# EAGLE library part QUAD (library _mtvl.DIY-PCB)
OP AMP
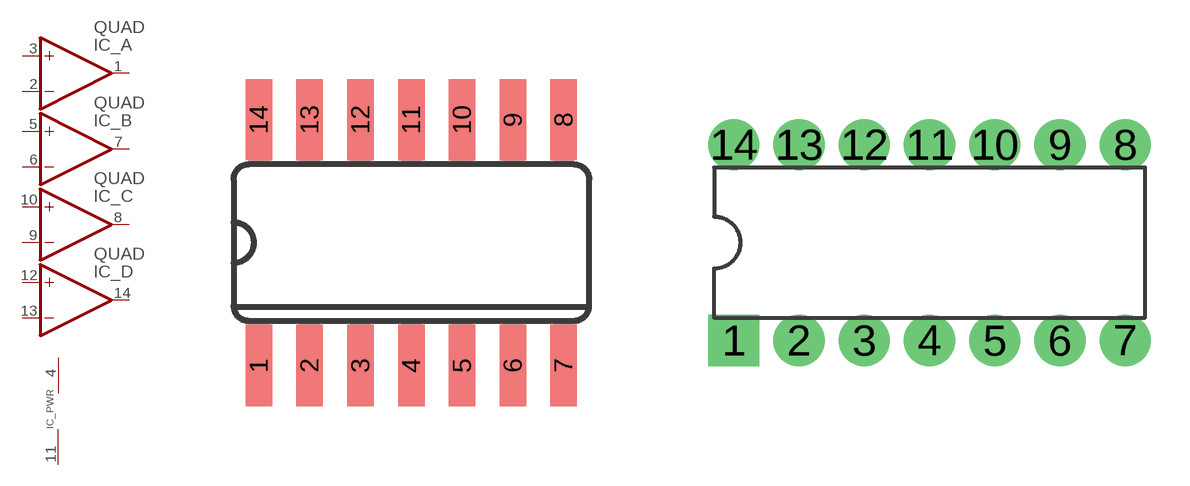
[diagram p1: symbol with the pads of SO14; footprints SO14, DIL14]

Designator prefix IC; gates _A=OPAMP _B=OPAMP _C=OPAMP _D=OPAMP _PWR=PWR+-

## QUADSMD  [SO14]
1  _A:OUT  out
2  _A:-IN  in
3  _A:+IN  in
4  _PWR:V+  pwr
5  _B:+IN  in
6  _B:-IN  in
7  _B:OUT  out
8  _C:OUT  out
9  _C:-IN  in
10  _C:+IN  in
11  _PWR:V-  pwr
12  _D:+IN  in
13  _D:-IN  in
14  _D:OUT  out

## QUADTH  [DIL14]
Pads as for SO14

## Footprint SO14 (pad centres in mm)
Small Outline package 150 mil
smd 0.66 x 2.032: 1 -3.81,-3.073; 2 -2.54,-3.073; 3 -1.27,-3.073; 4 0,-3.073; 5 1.27,-3.073; 6 2.54,-3.073; 7 3.81,-3.073; 8 3.81,3.073; 9 2.54,3.073; 10 1.27,3.073; 11 0,3.073; 12 -1.27,3.073; 13 -2.54,3.073; 14 -3.81,3.073

## Footprint DIL14 (pad centres in mm)
Dual In Line Package
drill 1 pad 2 square: 1 -7.62,-3.81
drill 1 pad 2: 2 -5.08,-3.81; 3 -2.54,-3.81; 4 0,-3.81; 5 2.54,-3.81; 6 5.08,-3.81; 7 7.62,-3.81; 8 7.62,3.81; 9 5.08,3.81; 10 2.54,3.81; 11 0,3.81; 12 -2.54,3.81; 13 -5.08,3.81; 14 -7.62,3.81